# Altium footprint library SW_PcbLib.PcbLib: 12 footprints
Each footprint in its own frame and in the unit in brackets; x right, y up, seen from the top. Pads: shape width x height; smd on the part's side, far side on the other; paste and mask are expansions set on the pad; w line width, h text height; cw(c..) or ccw(c..) is an arc to the next point about the centre after c.
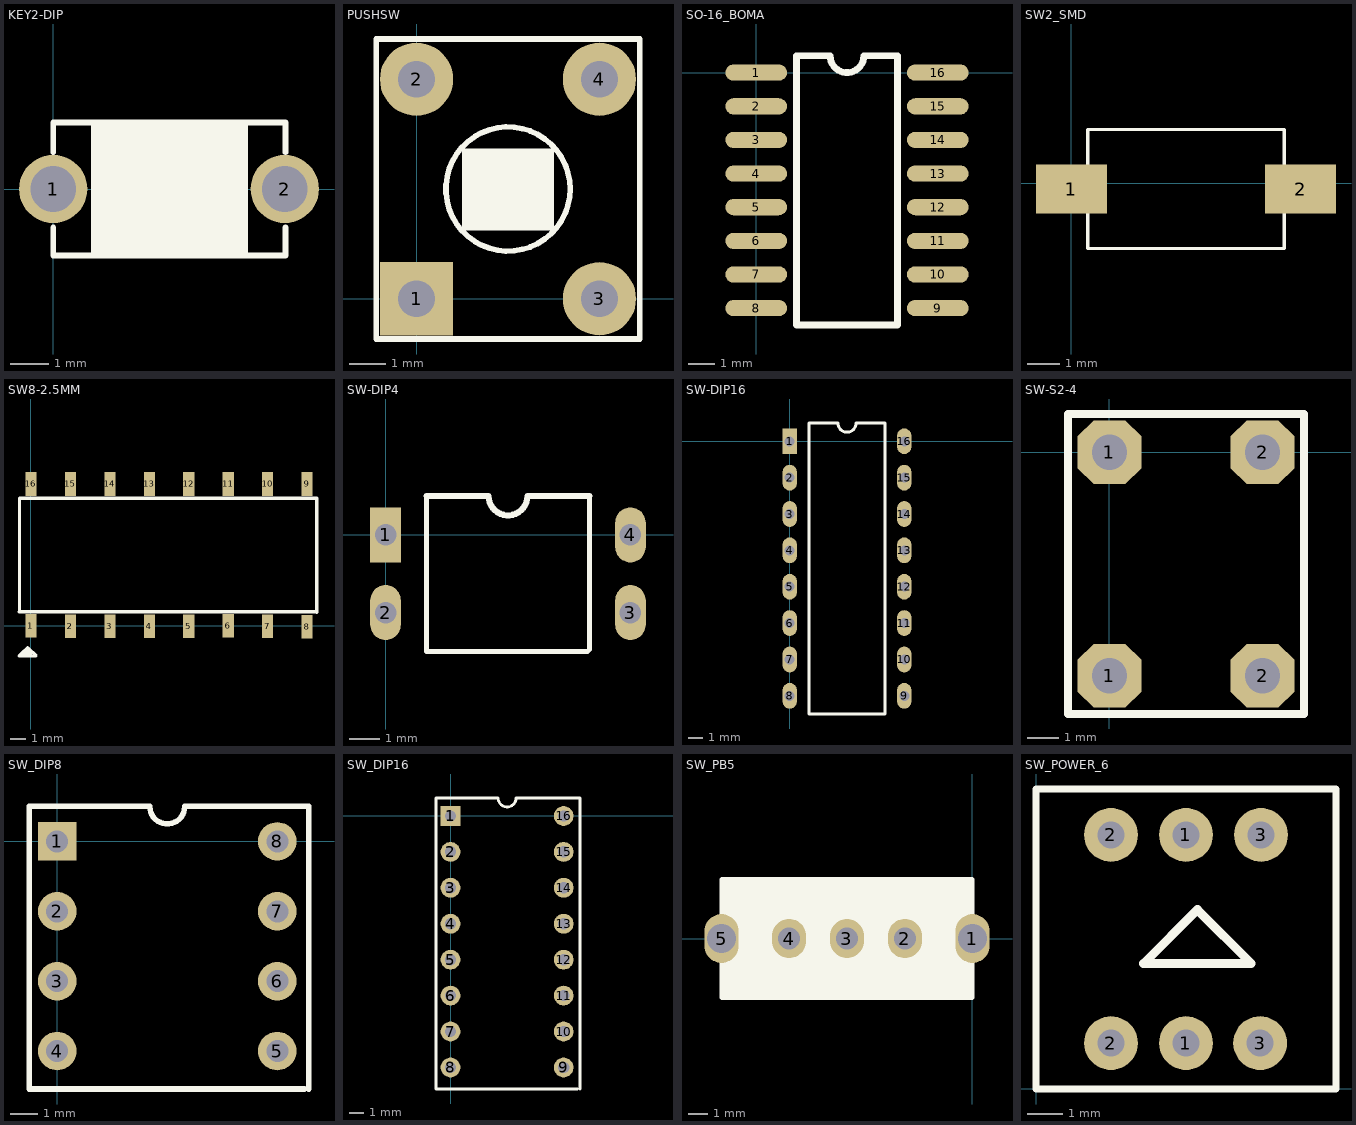
[diagram p0: the footprints below, top view; thin cyan lines are the x and y axes]

## KEY2-DIP [mm]
pads (2):
  round 1.8 hole 1.2: 1(0,0) 2(6.1,0)
Top Overlay:
  rectangle: 0.993,-1.702 5.133,1.676
  lines w0.152: 0,-1.016 0,-1.75 1.27,-1.75 ; 0,0.965 0,1.75 6.1,1.75 ; 1.194,-1.75 6.1,-1.75 ; 6.121,-1.753 6.121,-1.016 ; 6.121,0.965 6.121,1.753

## PUSHSW [mm]
pads (4):
  rect 2x2 hole 1: 1(0,0)
  round 2 hole 1: 2(0,6) 3(5,0) 4(5,6)
Top Overlay:
  circle w0.152: c2.5,3 r1.698
  rectangle: 1.243,1.871 3.758,4.106
  lines w0.152: -1.1,-1.1 -1.1,7.1 6.1,7.1 6.1,-1.1 -1.1,-1.1

## SO-16_BOMA [mil]
pads (16):
  oval 91.81x24 smd: 1(0,0) 2(0,-50) 3(0,-100) 4(0,-150) 5(0,-200) 6(0,-250) 7(0,-300) 8(0,-350) 9(270,-350) 10(270,-300) 11(270,-250) 12(270,-200) 13(270,-150) 14(270,-100) 15(270,-50) 16(270,0)
Top Overlay:
  lines w10: 60,-375 210,-375 210,25 160,25 cw(c135,25) 110,25 60,25 60,-375

## SW2_SMD [mil]
pads (2):
  rect 86.61x60 smd: 1(0,-7.17) 2(280,-7.17)
Top Overlay:
  lines w3.94: 260,-80 260,65.59 ; 260.08,-80 20,-80 20,65.67 260.16,65.67

## SW8-2.5MM [mm]
pads (16):
  rect 0.7x1.5 smd: 1(0,0) 2(2.504,-0.025) 3(5.004,-0.025) 4(7.504,-0.025) 5(10.004,-0.025) 6(12.504,0) 7(15.004,-0.025) 8(17.504,-0.051) 9(17.504,8.992) 10(15.004,8.992) 11(12.504,8.992) 12(10.004,8.992) 13(7.504,8.992) 14(5.004,8.992) 15(2.504,8.992) 16(0.004,8.992)
Top Overlay:
  lines w0.203: -0.432,-1.702 -0.381,-1.753 -0.025,-1.753 -0.203,-1.575 -0.406,-1.575 -0.737,-1.905 0.33,-1.905 -0.203,-1.372 -0.686,-1.854 0,-1.854 ; -0.737,0.889 18.085,0.889 18.11,0.864 18.11,8.077 -0.711,8.077 -0.711,0.914 -0.737,0.889

## SW-DIP4 [mm]
pads (4):
  rect 1x1.8 hole 0.7: 1(0,0)
  oval 1x1.8 hole 0.7: 2(0,-2.54) 3(8,-2.54) 4(8,0)
Top Overlay:
  lines w0.152: 1.335,1.27 1.335,-3.81 6.599,-3.81 6.665,-3.744 6.665,1.27
  lines w0.2: 1.335,1.27 3.365,1.27 ccw(c4,1.27) 4.635,1.27 6.665,1.27

## SW-DIP16 [mm]
pads (16):
  rect 1x1.8 hole 0.7: 1(0,0)
  oval 1x1.8 hole 0.7: 2(0,-2.54) 3(0,-5.08) 4(0,-7.62) 5(0,-10.16) 6(0,-12.7) 7(0,-15.24) 8(0,-17.78) 9(8,-17.78) 10(8,-15.24) 11(8,-12.7) 12(8,-10.16) 13(8,-7.62) 14(8,-5.08) 15(8,-2.54) 16(8,0)
Top Overlay:
  lines w0.2: 1.335,-19.05 1.335,1.27 3.365,1.27 ccw(c4,1.27) 4.635,1.27 6.665,1.27 6.665,-19.05 1.335,-19.05

## SW-S2-4 [mm]
pads (4):
  oct 2x2 hole 1.1: 1(0,-7) 1(0,0) 2(4.8,-7) 2(4.8,0)
Top Overlay:
  lines w0.254: -1.3,-8.2 6.1,-8.2 6.1,1.2 -1.3,1.2 -1.3,-8.2

## SW_DIP8 [mm]
pads (8):
  rect 1.4x1.4 hole 0.8: 1(0,0)
  round 1.4 hole 0.8: 2(0,-2.54) 3(0,-5.08) 4(0,-7.62) 5(8,-7.62) 6(8,-5.08) 7(8,-2.54) 8(8,0)
Top Overlay:
  lines w0.2: 8.984,-9 -1.016,-9 -1.016,1.27 3.365,1.27 ccw(c4,1.27) 4.635,1.27 9.144,1.27 9.144,-9

## SW_DIP16 [mm]
pads (16):
  rect 1.4x1.4 hole 0.8: 1(0,0)
  round 1.4 hole 0.8: 2(0,-2.54) 3(0,-5.08) 4(0,-7.62) 5(0,-10.16) 6(0,-12.7) 7(0,-15.24) 8(0,-17.78) 9(8,-17.78) 10(8,-15.24) 11(8,-12.7) 12(8,-10.16) 13(8,-7.62) 14(8,-5.08) 15(8,-2.54) 16(8,0)
Top Overlay:
  lines w0.2: 8.984,-19.304 -1.016,-19.304 -1.016,1.27 3.365,1.27 ccw(c4,1.27) 4.635,1.27 9.144,1.27 9.144,-19.304

## SW_PB5 [mil]
pads (5):
  oval 70x100 hole 60: 1(0,0) 5(-511.81,0)
  oval 70x80 hole 45: 2(-137.8,0) 3(-255.91,0) 4(-374.02,0)
Top Overlay:
  rectangle: -510.91,-122 -1.91,120
  lines w10: -510.91,-120 -510.91,120 -0.91,120 -0.91,-120 -510.91,-120

## SW_POWER_6 [mil]
pads (6):
  round 60 hole 30: 1(167.32,51.18) 1(167.32,283.46) 2(83.66,51.18) 2(83.66,283.46) 3(250,51.18) 3(250.98,283.46)
Top Overlay:
  lines w7.87: 0,0 334.65,0 334.65,334.65 0,334.65 0,0
  lines w10: 120,140 180,200 240,140 120,140